# Altium footprint library common-components.PcbLib: 43 footprints (part 1 of 3)
Each footprint in its own frame and in the unit in brackets; x right, y up, seen from the top. Pads: shape width x height; smd on the part's side, far side on the other; paste and mask are expansions set on the pad; w line width, h text height; cw(c..) or ccw(c..) is an arc to the next point about the centre after c.
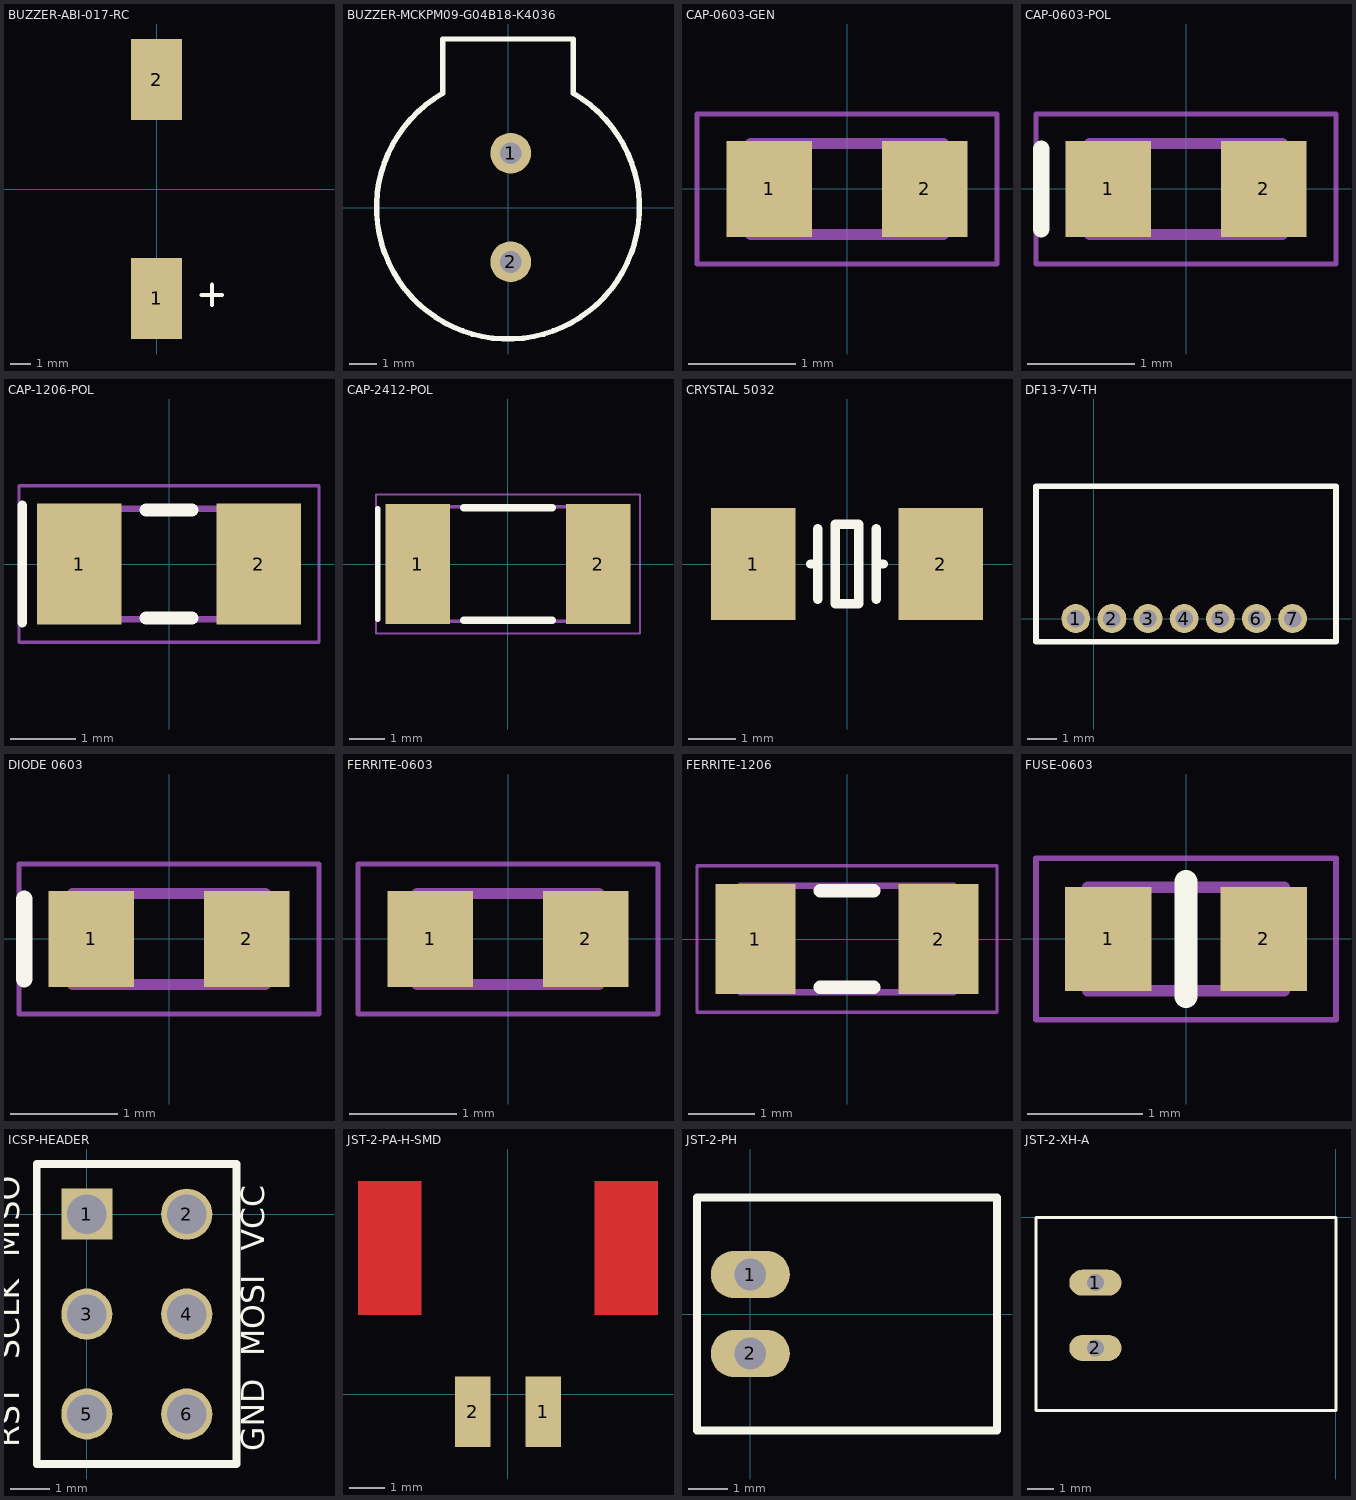
[diagram p0: the footprints below, top view; thin cyan lines are the x and y axes]

## BUZZER-ABI-017-RC [mm] "ABI-017-RC Buzzer"
height 7.1
pads (2):
  rect 2.5x4 smd: 1(0,-5.4) 2(0,5.4)
Top Overlay:
  lines w0.2: 2.225,-5.225 3.225,-5.225 ; 2.725,-5.725 2.725,-4.725
Mechanical 15:
  text ".Designator" at -3.75,-0.2 h0.7
3D body: height 7.1, standoff 0, extent -6.4,-6.9 6.4,6.9

## BUZZER-MCKPM09-G04B18-K4036 [mm] "MMULTICOMP  MCKPM09-G04B18-K4036  MAGNETIC BUZZER AND TRANSDUCERMULTICOMP  MCKPM09-G04B18-K4036  MAGNETIC BUZZER AND TRANSDUCER"
height 4
pads (2):
  round 1.5 hole 0.8: 1(0.1,2) 2(0.1,-2)
Top Overlay:
  lines w0.2: -2.4,4.2 ccw(c0,0) 2.4,4.2 2.4,6.2 0,6.2 -2.4,6.2 -2.4,4.2
Mechanical 15:
  text ".Designator" at -3.5,-0.225 h0.7
3D body: height 5, standoff -3, extent -4.8,-4.8 4.8,6.2

## CAP-0603-GEN [mm] "Non-polarized 0603 (1608) chip capacitor"
height 0.7
pads (2):
  rect 0.8x0.9 smd: 1(-0.725,0) 2(0.725,0)
Mechanical 13:
  lines w0.1: -0.9,-0.425 0.9,-0.425 0.9,0.425 -0.9,0.425 -0.9,-0.425
Mechanical 15:
  lines w0.05: -1.4,-0.7 1.4,-0.7 1.4,0.7 -1.4,0.7 -1.4,-0.7
  text ".Designator" at -0.975,-0.125 h0.2
3D body: height 0.86, standoff 0, extent -0.8,-0.4 0.8,0.4

## CAP-0603-POL [mm] "0603 (1608) polarized chip capacitor"
height 0.7
pads (2):
  rect 0.8x0.9 smd: 1(-0.725,0) 2(0.725,0)
Top Overlay:
  lines w0.152: -1.35,-0.375 -1.35,0.375
Mechanical 13:
  lines w0.1: -0.9,-0.425 -0.9,0.425 0.9,0.425 0.9,-0.425 -0.9,-0.425
Mechanical 15:
  lines w0.05: -1.4,-0.7 -1.4,0.7 1.4,0.7 1.4,-0.7 -1.4,-0.7
  text ".Designator" at -0.889,-0.127 h0.2
3D body: height 0.86, standoff 0, extent -0.8,-0.4 0.8,0.4

## CAP-1206-POL [mm] "1206 (3216) polarized chip capacitor"
height 1.4
pads (2):
  rect 1.3x1.85 smd: 1(-1.375,0) 2(1.375,0)
Top Overlay:
  lines w0.152: -2.25,-0.9 -2.25,0.9
  lines w0.2: -0.35,-0.825 0.35,-0.825 ; -0.35,0.825 0.35,0.825
Mechanical 13:
  lines w0.1: -1.6,-0.85 1.6,-0.85 1.6,0.85 -1.6,0.85 -1.6,-0.85
Mechanical 15:
  lines w0.05: -2.3,-1.2 2.3,-1.2 2.3,1.2 -2.3,1.2 -2.3,-1.2
  text ".Designator" at -1.524,-0.254 h0.3
3D body: height 1.6, standoff 0, extent -1.6,-0.8 1.6,0.8

## CAP-2412-POL [mm] "2412 (6032) polarized chip capacitor"
height 2.5
pads (2):
  rect 1.8x3.35 smd: 1(-2.525,0) 2(2.525,0)
Top Overlay:
  lines w0.152: -3.65,-1.55 -3.65,1.55
  lines w0.2: -1.25,-1.575 1.25,-1.575 ; -1.25,1.575 1.25,1.575
Mechanical 13:
  lines w0.1: -3,-1.6 3,-1.6 3,1.6 -3,1.6 -3,-1.6
Mechanical 15:
  lines w0.05: -3.7,-1.95 3.7,-1.95 3.7,1.95 -3.7,1.95 -3.7,-1.95
  text ".Designator" at -3.429,-0.381 h0.7
3D body: height 2.7, standoff 0, extent -3.05,-1.675 3.05,1.675

## CRYSTAL 5032 [mm] "SMD Crystal 5x3.2mm"
height 1
pads (2):
  rect 1.8x2.4 smd: 1(-2,0) 2(2,0)
Top Overlay:
  lines w0.2: -0.775,0 -0.625,0 ; -0.625,-0.75 -0.625,0.75 ; 0.625,-0.75 0.625,0.75 ; 0.625,0 0.775,0 ; -0.25,-0.85 -0.25,0.85 0.25,0.85 0.25,-0.85 -0.25,-0.85
Mechanical 15:
  text ".Designator" at -2.425,-0.225 h0.5
3D body: height 1.35, standoff 0, extent -2.5,-1.6 2.5,1.6

## DF13-7V-TH [mm] "Single row two contact connector"
height 3.6
pads (7):
  round 1 hole 0.6: 1(-0.625,0) 2(0.625,0) 3(1.875,0) 4(3.125,0) 5(4.375,0) 6(5.625,0) 7(6.875,0)
Top Overlay:
  lines w0.2: -2,-0.8 8.375,-0.8 8.375,4.575 -2,4.575 -2,-0.8
3D body: height 3.58, standoff -2.32, extent -2.05,-0.875 8.35,4.525

## DIODE 0603 [mm] "0603 (1608) Diode"
height 0.7
pads (2):
  rect 0.8x0.9 smd: 1(-0.725,0) 2(0.725,0)
Top Overlay:
  lines w0.152: -1.35,-0.375 -1.35,0.375
Mechanical 13:
  lines w0.1: -0.9,-0.425 0.9,-0.425 0.9,0.425 -0.9,0.425 -0.9,-0.425
Mechanical 15:
  lines w0.05: -1.4,-0.7 1.4,-0.7 1.4,0.7 -1.4,0.7 -1.4,-0.7
  text ".Designator" at -0.975,-0.075 h0.2
3D body: height 0.56, standoff 0, extent -0.85,-0.4 0.85,0.4

## FERRITE-0603 [mm] "Chip resistor 0603 (1608)"
height 0.45
pads (2):
  rect 0.8x0.9 smd: 1(-0.725,0) 2(0.725,0)
Mechanical 13:
  lines w0.1: -0.85,-0.425 0.85,-0.425 0.85,0.425 -0.85,0.425 -0.85,-0.425
Mechanical 15:
  lines w0.05: -1.4,-0.7 -1.4,0.7 1.4,0.7 1.4,-0.7 -1.4,-0.7
  text ".Designator" at -0.889,-0.127 h0.2
3D body: height 0.5, standoff 0, extent -0.8,-0.4 0.8,0.4

## FERRITE-1206 [mm] "1206 (3216) ferrite bead"
height 1.1
pads (2):
  rect 1.2x1.65 smd: 1(-1.375,0) 2(1.375,0)
Top Overlay:
  lines w0.2: -0.4,-0.725 0.4,-0.725 ; -0.4,0.725 0.4,0.725
Mechanical 13:
  lines w0.1: -1.6,-0.8 1.6,-0.8 1.6,0.8 -1.6,0.8 -1.6,-0.8
Mechanical 15:
  lines w0.05: -2.25,-1.1 2.25,-1.1 2.25,1.1 -2.25,1.1 -2.25,-1.1
  text ".Designator" at -1.651,0 h0.3
3D body: height 0.6, standoff 0, extent -1.6,-0.8 1.6,0.8

## FUSE-0603 [mm] "0603 (1608) resettable fuse"
height 1
pads (2):
  rect 0.75x0.9 smd: 1(-0.675,0) 2(0.675,0)
Top Overlay:
  lines w0.2: 0,-0.5 0,0.5
Mechanical 13:
  lines w0.1: -0.85,-0.45 -0.85,0.45 0.85,0.45 0.85,-0.45 -0.85,-0.45
Mechanical 15:
  lines w0.05: -1.3,-0.7 -1.3,0.7 1.3,0.7 1.3,-0.7 -1.3,-0.7
  text ".Designator" at -1.016,0 h0.2
3D body: height 0.45, standoff 0, extent -0.8,-0.425 0.8,0.425

## ICSP-HEADER [mm] "ICSP standard header"
pads (6):
  rect 1.3x1.3 hole 1: 1(0,0)
  round 1.3 hole 1: 2(2.54,0) 3(0,-2.54) 4(2.54,-2.54) 5(0,-5.08) 6(2.54,-5.08)
Top Overlay:
  lines w0.2: -1.275,-6.35 -1.275,1.275 3.8,1.275 3.8,-6.35 -1.275,-6.35
  text "MISO" at -1.525,-1.09 h1
  text "VCC" at 4.7,-0.924 h1
  text "SCLK" at -1.525,-3.686 h1
  text "MOSI" at 4.7,-3.609 h1
  text "RST" at -1.525,-5.93 h1
  text "GND" at 4.7,-6.026 h1
3D body: height 7.84, standoff -1.25, extent -1.27,-6.35 3.81,1.27

## JST-2-PA-H-SMD [mm] "JS PA 2 pin horizontal SMD connector"
pads (2):
  rect 1x2 smd: 1(1,-0.5) 2(-1,-0.5)
Top Layer:
  rectangle: -4.25,2.25 -2.45,6.05
  region: 4.25,6.05 2.45,6.05 2.45,2.25 4.25,2.25
Mechanical 15:
  text ".Designator" at -2.35,7 h0.7
3D body: height 5.8, standoff 0, extent -4,-1.1 4,8.9

## JST-2-PH [mm] "JST-PH single row two contact connector"
height 5.7
pads (2):
  oval 2x1.2 hole 0.8: 1(0,1) 2(0,-1)
Top Overlay:
  lines w0.2: -1.35,-2.95 6.25,-2.95 6.25,2.95 -1.35,2.95 -1.35,-2.95
3D body: height 4.8, standoff -3.4, extent -1.35,-2.975 6.25,2.925

## JST-2-XH-A [mm]
height 6.1
pads (2):
  oval 2x1 hole 0.65: 1(-9.225,-2.5) 2(-9.225,-5)
Top Overlay:
  lines w0.1: -11.5,-7.4 -11.5,0 0,0 0,-7.4 -11.5,-7.4
Mechanical 15:
  text ".Designator" at -10.525,-1.5 h1
3D body: height 6.1, standoff -2, extent -11.5,-7.425 0,-0.025